# Altium schematic symbol library A75AD.SchLib: 1 symbol
Pins are listed as number, name and electrical type; pins without a type are passive.

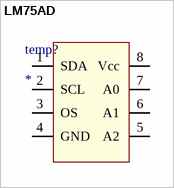
[diagram p0: symbol LM75AD]

## LM75AD
designator temp?
footprint ЛМ75А (8-контактных корпусов: SO8 и TSSOP8)
pins: 1 SDA, 2 SCL, 3 OS, 4 GND, 5 A2, 6 A1, 7 A0, 8 Vcc